# EAGLE library part 1-2178711-2 (library SamacSys_Parts)
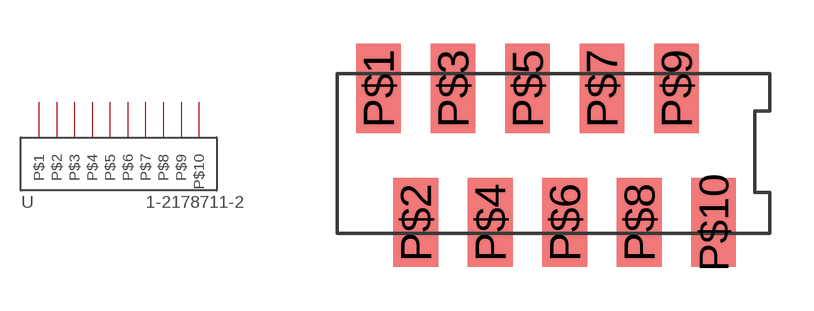
[diagram p1: symbol with the pads of 1-2178712-0; footprint 1-2178712-0]

Designator prefix -

## 1-2178711-2  [1-2178712-0]
P$1  P$1
P$2  P$2
P$3  P$3
P$4  P$4
P$5  P$5
P$6  P$6
P$7  P$7
P$8  P$8
P$9  P$9
P$10  P$10

## Footprint 1-2178712-0 (pad centres in mm)
smd 1.524 x 3.048: P$1 -5.715,2.286; P$2 -4.445,-2.286; P$3 -3.175,2.286; P$4 -1.905,-2.286; P$5 -0.635,2.286; P$6 0.635,-2.286; P$7 1.905,2.286; P$8 3.175,-2.286; P$9 4.445,2.286; P$10 5.715,-2.286